# Altium schematic symbol library ICs.SchLib: 134 symbols (part 2 of 7)
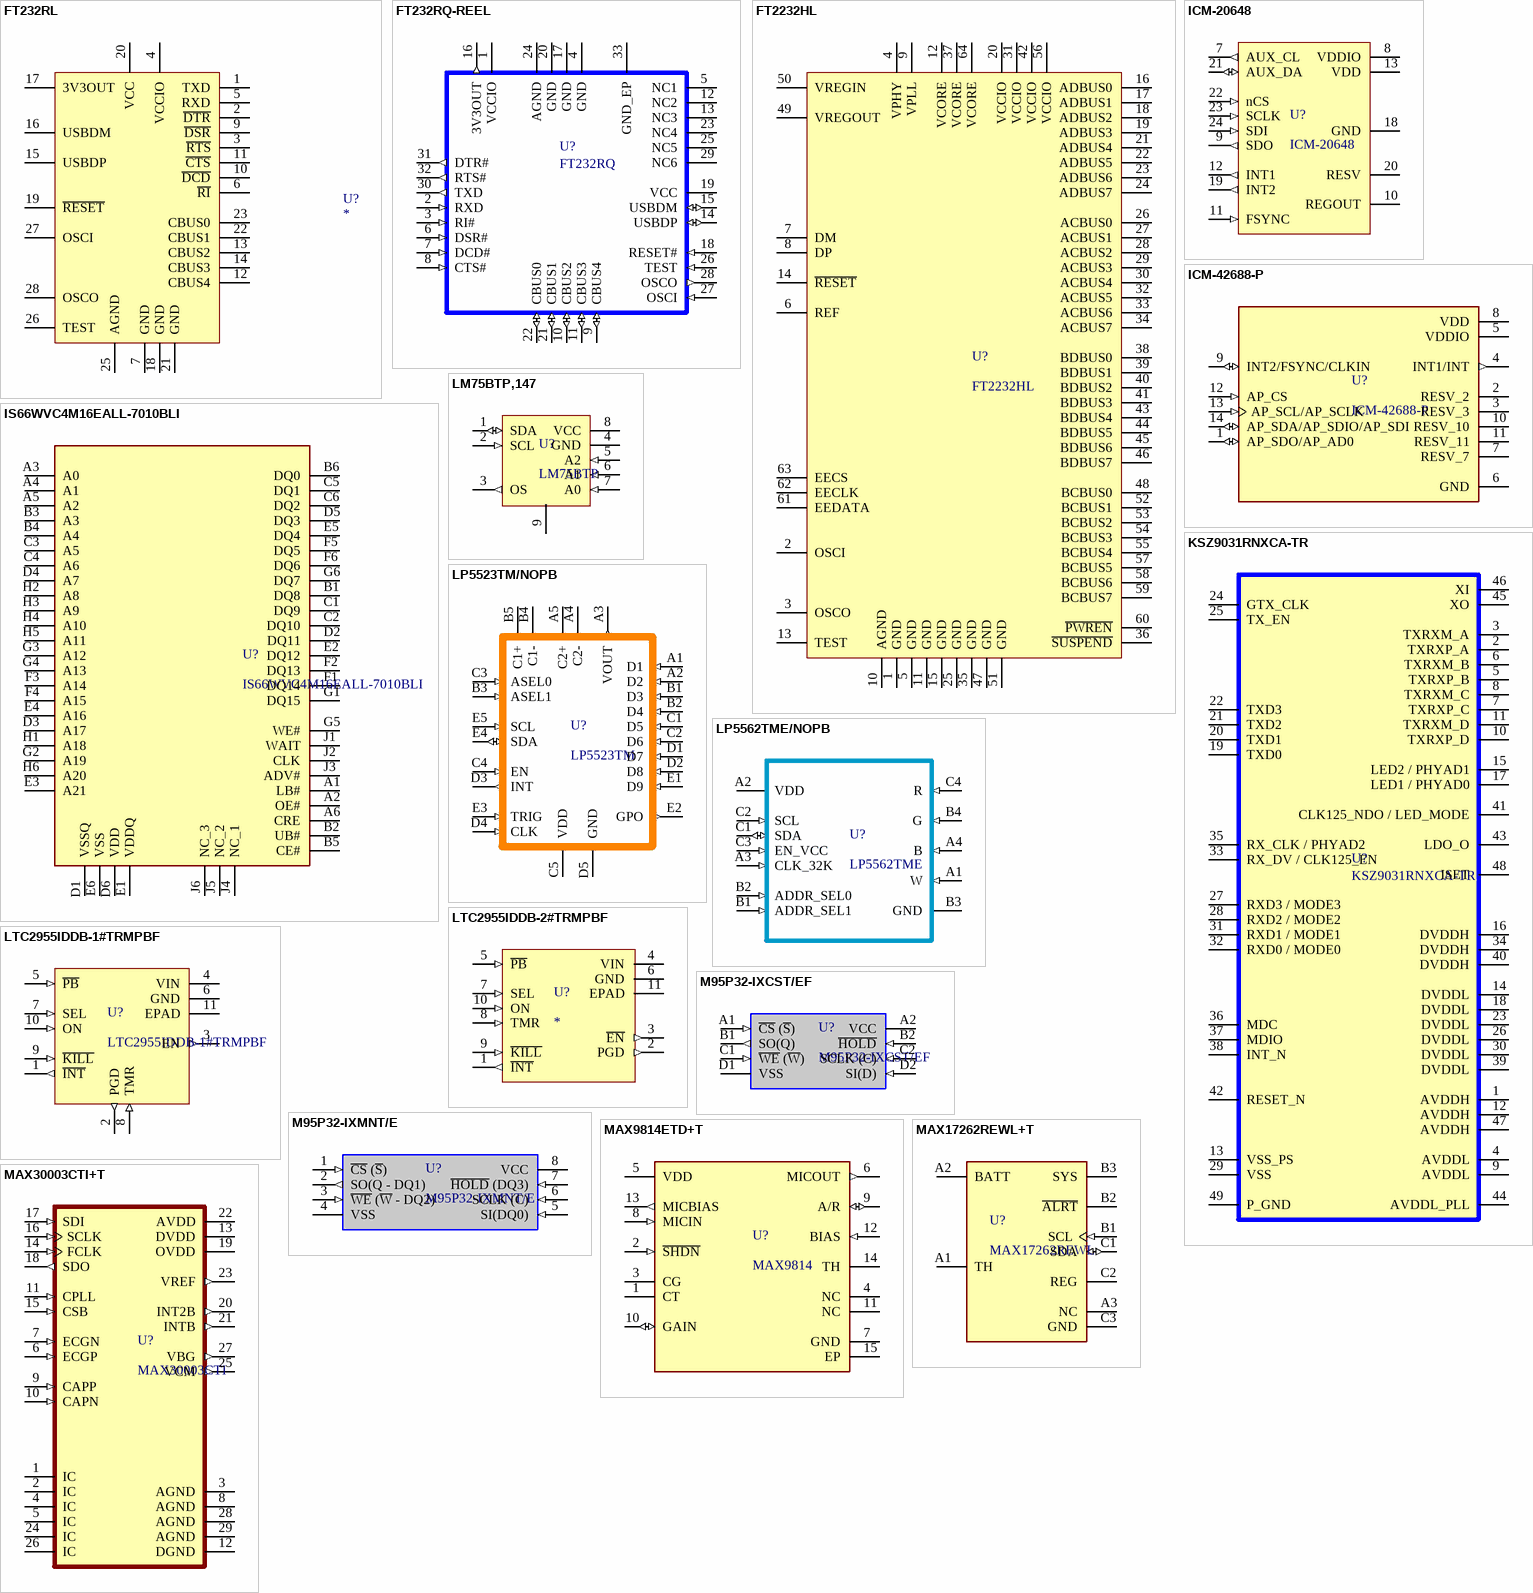
[diagram p27: symbols FT232RL to MAX30003CTI+T]

## FT232RQ-REEL
designator U?, comment FT232RQ
IC USB FS SERIAL UART 32-QFN; Manufacturer: FTDI, Future Technology Devices International Ltd; Manufacturer Part Number: FT232RQ-REEL; Function: Bridge, USB to UART; Standards: USB 2.0; Voltage - Supply: 3.3 V ~ 5.25 V; Current - Supply: 15mA; Supplier 1: Digi-Key; RoHS: RoHS Compliant; Category: Integrated Circuits (ICs); Stock 1: 69510; Pricing 1: 1=3.36, 10=3.027, 50=2.8772, 100=2.7276, 250=2.42872, 500=2.1298, 1000=1.98035 (GBP); Packaging: Digi-Reel®; Part Status: Active; Protocol: USB; Interface: UART; Operating Temperature: -40°C ~ 85°C; Package / Case: 32-VFQFN Exposed Pad; Supplier Device Package: 32-QFN Exposed Pad (5x5); ComponentLink1URL: http://www.ftdichip.com/Support/Documents/DataSheets/ICs/DS_FT232R.pdf; ComponentLink1Description: http://www.ftdichip.com/Support/Documents/DataSheets/ICs/DS_FT232R.pdf; Supplier Part Number 1: 768-1008-6-ND
footprint QFN50P500X500X100_HS-33N (QFN, 32-Leads, Body 5.00x5.00mm, Pitch 0.50mm, Thermal Pad 3.20x3.20mm, IPC Medium Density)
pins: 1 VCCIO (power), 2 RXD (in), 3 RI# (in), 4 GND (power), 5 NC1, 6 DSR# (in), 7 DCD# (in), 8 CTS# (in), 9 CBUS4 (io), 10 CBUS2 (io), 11 CBUS3 (io), 12 NC2, 13 NC3, 14 USBDP (io), 15 USBDM (io), 16 3V3OUT (out), 17 GND (power), 18 RESET# (in), 19 VCC (power), 20 GND (power), 21 CBUS1 (io), 22 CBUS0 (io), 23 NC4, 24 AGND (power), 25 NC5, 26 TEST (in), 27 OSCI (in), 28 OSCO (out), 29 NC6, 30 TXD (out), 31 DTR# (out), 32 RTS# (out), 33 GND_EP (power)

## FT2232HL
designator U?
FTDI Chip FT2232HL Dual UART Interface RS232, RS422, RS485 480Mbit/s, 64-Pin, LQFP; Manufacturer: FTDI; Manufacturer Part Number: FT2232HL; RoHS: Yes; Category: Interface ICs; Stock 1: 5049; Pricing 1: 10=3.93200, 20=3.83000, 50=3.72700, 100=3.63700 (USD); Mount: Surface Mount; Case/Package: LQFP; Number of Pins: 64; Min Operating Temperature: -40°C; Max Operating Temperature: 85°C; Length: 10mm; Width: 10mm; Height: 1.4mm; Lead Free: Lead Free; ComponentLink1URL: http://uk.rs-online.com/webdocs/1384/0900766b81384546.pdf?src-supplier=RSComponents; ComponentLink1Description: http://uk.rs-online.com/webdocs/1384/0900766b81384546.pdf?src-supplier=RSComponents; ComponentLink2URL: http://docs-europe.electrocomponents.com/webdocs/1384/0900766b81384546.pdf?src-supplier=Allied+Electronics; ComponentLink2Description: http://docs-europe.electrocomponents.com/webdocs/1384/0900766b81384546.pdf?src-supplier=Allied+Electronics; Supplier 1: Mouser; Supplier Part Number 1: 895-FT2232HL; Supplier 2: Digikey; Supplier Part Number 2: 768-1024-1-ND
footprint LQFP50P1200X1200X160-64N (LQFP, 64-Leads, Body 10.00x10.00mm, Pitch 0.50mm, IPC Medium Density)
pins: 1 GND, 2 OSCI, 3 OSCO, 4 VPHY, 5 GND, 6 REF, 7 DM, 8 DP, 9 VPLL, 10 AGND, 11 GND, 12 VCORE, 13 TEST, 14 ~{RESET}, 15 GND, 16 ADBUS0, 17 ADBUS1, 18 ADBUS2, 19 ADBUS3, 20 VCCIO, 21 ADBUS4, 22 ADBUS5, 23 ADBUS6, 24 ADBUS7, 25 GND, 26 ACBUS0, 27 ACBUS1, 28 ACBUS2, 29 ACBUS3, 30 ACBUS4, 31 VCCIO, 32 ACBUS5, 33 ACBUS6, 34 ACBUS7, 35 GND, 36 ~{SUSPEND}, 37 VCORE, 38 BDBUS0, 39 BDBUS1, 40 BDBUS2, 41 BDBUS3, 42 VCCIO, 43 BDBUS4, 44 BDBUS5, 45 BDBUS6, 46 BDBUS7, 47 GND, 48 BCBUS0, 49 VREGOUT, 50 VREGIN, 51 GND, 52 BCBUS1, 53 BCBUS2, 54 BCBUS3, 55 BCBUS4, 56 VCCIO, 57 BCBUS5, 58 BCBUS6, 59 BCBUS7, 60 ~{PWREN}, 61 EEDATA, 62 EECLK, 63 EECS, 64 VCORE

## ICM-20648
designator U?
IMU ACCEL/GYRO/TEMP I2C/SPI QFN; Manufacturer: TDK InvenSense; Sensor Type: Accelerometer, Gyroscope, Temperature, 6 Axis; Output Type: I²C, SPI; .CheckedFootprint: Yes; Supplier 1: Digi-Key; Manufacturer Part Number: ICM-20648; RoHS: RoHS Compliant; Category: Sensors, Transducers; Stock: 2335; Pricing: 1=7.67, 5=6.73, 10=6.056, 25=5.3836, 50=4.9796, 100=4.3067, 500=4.03756, 1000=3.76838 (USD); Part Status: Active; Operating Temperature: -40°C ~ 85°C (TA); ComponentLink1URL: https://www.invensense.com/wp-content/uploads/2015/12/ICM-20648-Product-Brief-v1.0.pdf; ComponentLink1Description: https://www.invensense.com/wp-content/uploads/2015/12/ICM-20648-Product-Brief-v1.0.pdf; Supplier Part Number 1: 1428-1061-6-ND; .CheckedSchematic: Yes
footprint QFN40P300X300X95_HS-25N (QFN, 24-Leads, Body 3.00x3.00mm, Pitch 0.40mm, Thermal Pad 1.50x1.50mm, IPC Medium Density)
pins: 1 NC  hidden, 2 NC  hidden, 3 NC  hidden, 4 NC  hidden, 5 NC  hidden, 6 NC  hidden, 7 AUX_CL (out), 8 VDDIO (power), 9 SDO (out), 10 REGOUT (power), 11 FSYNC (in), 12 INT1 (out), 13 VDD (power), 14 NC  hidden, 15 NC  hidden, 16 NC  hidden, 17 NC  hidden, 18 GND (power), 19 INT2 (out), 20 RESV, 21 AUX_DA (io), 22 nCS (in), 23 SCLK (in), 24 SDI (in)

## ICM-42688-P
designator U?
Accelerometer and Gyroscope 6-Axis MEMS Motion Tracking Device Digital-OUT 14-Pin LGA T/R; Manufacturer: TDK InvenSense; Supplier: Arrow Electronics; Supplier Part Number: ICM-42688-P; Manufacturer Part Number: ICM-42688-P; RoHS: No; Category: Inertial Measurement Units (IMUs); Stock: 2325; Pricing: 1=6,624, 10=5,42, 25=5,047, 50=4,908, 100=4,25, 250=4,196, 500=3,924, 1000=3,641 (USD); ComponentLink1URL: https://media.digikey.com/pdf/Data%20Sheets/TDK%20PDFs/ICM-42688-P_DS_Rev1.2.pdf?src-supplier=Digi-Key; ComponentLink1Description: https://media.digikey.com/pdf/Data%20Sheets/TDK%20PDFs/ICM-42688-P_DS_Rev1.2.pdf?src-supplier=Digi-Key; Supplier 1: Farnell; Supplier Part Number 1: 3491010; Supplier 2: Digikey; Supplier Part Number 2: 1428-ICM-42688-PCT-ND; Supplier 3: Digikey; Supplier Part Number 3: 1428-ICM-42688-PDKR-ND
footprint QFN50P300X255X97_HS-15N (QFN, 14-Leads, Body 3,00x2,55mm, Pitch 0,50mm, Thermal Pad 0,00x0,00mm, IPC Medium Density)
pins: 1 AP_SDO/AP_AD0 (io), 2 RESV_2, 3 RESV_3, 4 INT1/INT (out), 5 VDDIO (power), 6 GND (power), 7 RESV_7, 8 VDD (power), 9 INT2/FSYNC/CLKIN (io), 10 RESV_10, 11 RESV_11, 12 AP_CS (in), 13 AP_SCL/AP_SCLK (in), 14 AP_SDA/AP_SDIO/AP_SDI (io)

## IS66WVC4M16EALL-7010BLI
designator U?
Cellular RAM Pseudo SRAM, 4Mx16, 1.7 to 1.95V, 70ns, VFBGA-54; Manufacturer: ISSI; Memory Format: Volatile,PSRAM; Memory Size: 64Mb; Supplier: Mouser; Supplier Part Number: 870-66WV4M16EA70BLI; Manufacturer Part Number: IS66WVC4M16EALL-7010BLI; RoHS: Yes; Category: Memory; Stock: 4260; Pricing: 1=6, 10=5,69, 50=5,69, 100=5,69, 1000=4,73, 10000=4,73 (USD); Mounting Technology: Surface Mount; Case/Package: VFBGA; Min Operating Temperature: -40°C; Max Operating Temperature: 85°C; Packaging: Tray; Access Time: 70ns; Series: -; RoHS Compliant: Yes; ComponentLink1URL: http://www.mouser.com/ds/2/198/66-67WVC4M16EALL-845141.pdf?src-supplier=Mouser; ComponentLink1Description: http://www.mouser.com/ds/2/198/66-67WVC4M16EALL-845141.pdf?src-supplier=Mouser; ComponentLink2URL: http://www.issi.com/WW/pdf/66-67WVC4M16EALL.pdf?src-supplier=Digi-Key; ComponentLink2Description: http://www.issi.com/WW/pdf/66-67WVC4M16EALL.pdf?src-supplier=Digi-Key; Supplier 1: Arrow Electronics; Supplier Part Number 1: IS66WVC4M16EALL-7010BLI; Supplier 2: Digi-Key; Supplier Part Number 2: IS66WVC4M16EALL-7010BLI-TR-ND
footprint BGA54C75P6X9_600X800X100 (BGA, 54-Leads, Body 6,00x8,00mmx1,00mm, Pitch 0,75mm)
pins: A1 LB#, A2 OE#, A3 A0, A4 A1, A5 A2, A6 CRE, B1 DQ8, B2 UB#, B3 A3, B4 A4, B5 CE#, B6 DQ0, C1 DQ9, C2 DQ10, C3 A5, C4 A6, C5 DQ1, C6 DQ2, D1 VSSQ, D2 DQ11, D3 A17, D4 A7, D5 DQ3, D6 VDD, E1 VDDQ, E2 DQ12, E3 A21, E4 A16, E5 DQ4, E6 VSS, F1 DQ14, F2 DQ13, F3 A14, F4 A15, F5 DQ5, F6 DQ6, G1 DQ15, G2 A19, G3 A12, G4 A13, G5 WE#, G6 DQ7, H1 A18, H2 A8, H3 A9, H4 A10, H5 A11, H6 A20, J1 WAIT, J2 CLK, J3 ADV#, J4 NC_1, J5 NC_2, J6 NC_3

## KSZ9031RNXCA-TR
designator U?
IC TXRX ETHERNET 48QFN; Manufacturer: Microchip Technology; Number of Drivers/Receivers: 4/4; Duplex: Full; Voltage - Supply: 1.8V, 2.5V, 3.3V; Supplier 1: Digi-Key; Manufacturer Part Number: KSZ9031RNXCA-TR; RoHS: RoHS Compliant; Category: Integrated Circuits (ICs); Stock 1: 5007; Pricing 1: 1=4.48, 10=4.01, 25=3.606, 100=3.2798, 250=2.96888, 500=2.658 (GBP); Packaging: Digi-Reel®; Part Status: Active; Type: Transceiver; Protocol: Ethernet; Receiver Hysteresis: -; Data Rate: -; Operating Temperature: 0°C ~ 70°C; Mounting Type: Surface Mount; Package / Case: 48-VFQFN Exposed Pad; Supplier Device Package: 48-QFN (7x7); ComponentLink1URL: http://www.microchip.com/mymicrochip/filehandler.aspx?ddocname=en585516; ComponentLink1Description: http://www.microchip.com/mymicrochip/filehandler.aspx?ddocname=en585516; Supplier Part Number 1: 576-4041-6-ND
footprint QFN50P700X700X90_HS-49N (QFN, 48-Leads, Body 7.00x7.00mm, Pitch 0.50mm, Thermal Pad 3.50x3.50mm, IPC Medium Density)
ibis ksz9031rnx_1v8 (Model Description)
pins: 1 AVDDH, 2 TXRXP_A, 3 TXRXM_A, 4 AVDDL, 5 TXRXP_B, 6 TXRXM_B, 7 TXRXP_C, 8 TXRXM_C, 9 AVDDL, 10 TXRXP_D, 11 TXRXM_D, 12 AVDDH, 13 VSS_PS, 14 DVDDL, 15 LED2 / PHYAD1, 16 DVDDH, 17 LED1 / PHYAD0, 18 DVDDL, 19 TXD0, 20 TXD1, 21 TXD2, 22 TXD3, 23 DVDDL, 24 GTX_CLK, 25 TX_EN, 26 DVDDL, 27 RXD3 / MODE3, 28 RXD2 / MODE2, 29 VSS, 30 DVDDL, 31 RXD1 / MODE1, 32 RXD0 / MODE0, 33 RX_DV / CLK125_EN, 34 DVDDH, 35 RX_CLK / PHYAD2, 36 MDC, 37 MDIO, 38 INT_N, 39 DVDDL, 40 DVDDH, 41 CLK125_NDO / LED_MODE, 42 RESET_N, 43 LDO_O, 44 AVDDL_PLL, 45 XO, 46 XI, 47 AVDDH, 48 ISET, 49 P_GND

## LM75BTP,147
designator U?, comment LM75BTP
SENSOR TEMPERATURE I2C 8HWSON; Manufacturer: NXP USA Inc.; Manufacturer Part Number: LM75BTP,147; Sensor Type: Digital, Local; Sensing Temperature - Local: -55°C ~ 125°C; Output Type: I²C; Voltage - Supply: 2.8 V ~ 5.5 V; Resolution: 11 b; Accuracy - Highest (Lowest): ±2°C (±3°C); Test Condition: -25°C ~ 100°C (-55°C ~ 125°C); Supplier 1: Digi-Key; RoHS: RoHS Compliant; Category: Sensors, Transducers; Stock: 36618; Pricing: 1=0.74, 5=0.708, 10=0.617, 25=0.5416, 50=0.45, 100=0.3833, 500=0.3333, 1000=0.29164 (USD); Packaging: Digi-Reel®; Part Status: Active; Sensing Temperature - Remote: -; Features: Output Switch, Programmable Limit, Shutdown Mode; Operating Temperature: -55°C ~ 125°C; Mounting Type: Surface Mount; Package / Case: 8-WFDFN Exposed Pad; Supplier Device Package: 8-HWSON (2x3); ComponentLink1URL: http://www.nxp.com/documents/data_sheet/LM75B.pdf; ComponentLink1Description: http://www.nxp.com/documents/data_sheet/LM75B.pdf; Supplier Part Number 1: 568-9815-6-ND
footprint PSON50P300X80_HS-9N (PSON, 8-Leads, Body 2.00x3.00mm, Pitch 0.50mm, Thermal Pad 1.50x0.66mm, IPC Medium Density)
pins: 1 SDA (io), 2 SCL (in), 3 OS (out), 4 GND (power), 5 A2 (in), 6 A1 (in), 7 A0 (in), 8 VCC (power), 9 (power)

## LP5523TM/NOPB
designator U?, comment LP5523TM
IC LED DRIVER RGLTR DIM 25USMD; Manufacturer: Texas Instruments; Manufacturer Part Number: LP5523TM/NOPB; Topology: Switched Capacitor (Charge Pump); Internal Switch(s): Yes; Number of Outputs: 9; Voltage - Supply (Min): 2.7V; Voltage - Supply (Max): 5.5V; Current - Output / Channel: 25.5mA; Dimming: PWM; Supplier 1: Digi-Key; Supplier Part Number 1: 296-39616-6-ND; RoHS: RoHS Compliant; Category: Integrated Circuits (ICs); Stock 1: 1590; Pricing 1: 1=2.11, 10=1.899, 100=1.524 (EUR); Packaging: Digi-Reel®; Part Status: Active; Type: DC DC Regulator; Voltage - Output: -; Frequency: -; Applications: Backlight; Operating Temperature: -30°C ~ 85°C (TA); Mounting Type: Surface Mount; Package / Case: 25-WFBGA; Supplier Device Package: 25-uSMD; ComponentLink1URL: http://www.ti.com/lit/ds/symlink/lp5523.pdf; ComponentLink1Description: http://www.ti.com/lit/ds/symlink/lp5523.pdf
footprint BGA25C40P5X5_226X226X68 (BGA, 25-Leads, Body 2.26x2.26mmx0.68mm, Pitch 0.40mm)
pins: A1 D1 (in), A2 D2 (in), A3 VOUT (out), A4 C2-, A5 C2+, B1 D3 (in), B2 D4 (in), B3 ASEL1 (in), B4 C1-, B5 C1+, C1 D5 (in), C2 D6 (in), C3 ASEL0 (in), C4 EN (in), C5 VDD (power), D1 D7 (in), D2 D8 (in), D3 INT (out), D4 CLK (in), D5 GND (power), E1 D9 (in), E2 GPO (out), E3 TRIG (in), E4 SDA (io), E5 SCL (in)

## LP5562TME/NOPB
designator U?, comment LP5562TME
IC LED DRIVER LINEAR DIM 25.5MA; Manufacturer: Texas Instruments; Manufacturer Part Number: LP5562TME/NOPB; Internal Switch(s): Yes; Number of Outputs: 4; Voltage - Supply (Min): 2.7V; Voltage - Supply (Max): 5.5V; Frequency: 256kHz, 558kHz; Dimming: I²C; Supplier 1: Digi-Key; RoHS: RoHS Compliant; Category: Integrated Circuits (ICs); Stock 1: 4154; Pricing 1: 1=1.34, 10=1.195, 100=0.9314 (USD); Packaging: Digi-Reel®; Part Status: Active; Type: Linear; Topology: -; Voltage - Output: -; Current - Output / Channel: 25.5mA; Applications: Backlight; Operating Temperature: -40°C ~ 85°C (TA); Mounting Type: Surface Mount; Package / Case: 12-WFBGA, DSBGA; Supplier Device Package: 12-DSBGA; ComponentLink1URL: http://www.ti.com/lit/ds/symlink/lp5562.pdf; ComponentLink1Description: http://www.ti.com/lit/ds/symlink/lp5562.pdf; Supplier Part Number 1: 296-39060-6-ND
footprint BGA12C40P4X3_162X122X68 (BGA, 12-Leads, Body 1.62x1.22mmx0.68mm, Pitch 0.40mm)
pins: A1 W (in), A2 VDD (power), A3 CLK_32K (in), A4 B (in), B1 ADDR_SEL1 (in), B2 ADDR_SEL0 (in), B3 GND (power), B4 G (in), C1 SDA (io), C2 SCL (in), C3 EN_VCC (in), C4 R (in)

## LTC2955IDDB-1#TRMPBF
designator U?
IC CTLR ON/OFF PUSHBUTTON 10-DFN; Manufacturer 1: Linear Technology; Category 1: Integrated Circuits (ICs); Voltage - Input: ±36V; Voltage - Supply: 1.5 V ~ 36 V; Current - Supply: 1.2µA; Parameter Name 1: Surface Mount; Supplier 1: Digi-Key; Supplier Part Number 1: LTC2955IDDB-1#TRMPBFCT-ND; Manufacturer Part Number 1: LTC2955IDDB-1#TRMPBF; RoHS 1: RoHS Compliant; Description 1: IC CTLR ON/OFF PUSHBUTTON 10-DFN; Stock 1: 935; Pricing 1: 1=5.8, 25=5.1756, 100=4.6582 (USD); Packaging: Cut Tape (CT); Applications: Push Button, On/Off Controller; Package / Case: 10-WFDFN Exposed Pad; Supplier Device Package: 10-DFN (3x2); ComponentLink1URL: http://www.linear.com/docs/41161; ComponentLink1Description: http://www.linear.com/docs/41161
footprint SON50P200X80_HS-11N (SON, 10-Leads, Body 3.00x2.00mm, Pitch 0.50mm, Thermal Pad 2.39x0.44mm, IPC Medium Density)
pins: 1 ~{INT} (out), 2 PGD (out), 3 EN (out), 4 VIN (power), 5 ~{PB} (in), 6 GND (power), 7 SEL (in), 8 TMR (in), 9 ~{KILL} (in), 10 ON (in), 11 EPAD (power)

## LTC2955IDDB-2#TRMPBF
designator U?
IC CTLR ON/OFF PUSHBUTTON 10-DFN; Manufacturer: Linear Technology; Manufacturer Part Number: LTC2955IDDB-2#TRMPBF; Voltage - Input: ±36V; Voltage - Supply: 1.5 V ~ 36 V; Current - Supply: 1.2µA; Supplier 1: Digi-Key; Supplier Part Number 1: LTC2955IDDB-2#TRMPBFDKR-ND; RoHS: RoHS Compliant; Category: Integrated Circuits (ICs); Stock 1: 289; Pricing 1: 1=4.86, 25=4.3372, 100=3.9036 (EUR); Packaging: Digi-Reel®; Applications: Push Button, On/Off Controller; Operating Temperature: -40°C ~ 85°C; Mounting Type: Surface Mount; Package / Case: 10-WFDFN Exposed Pad; Supplier Device Package: 10-DFN (3x2); ComponentLink1URL: http://www.linear.com/docs/41161; ComponentLink1Description: http://www.linear.com/docs/41161
footprint SON50P200X80_HS-11N (SON, 10-Leads, Body 3.00x2.00mm, Pitch 0.50mm, Thermal Pad 2.39x0.44mm, IPC Medium Density)
pins: 1 ~{INT} (out), 2 PGD (out), 3 ~{EN} (out), 4 VIN (power), 5 ~{PB} (in), 6 GND (power), 7 SEL (in), 8 TMR (in), 9 ~{KILL} (in), 10 ON (in), 11 EPAD (power)

## M95P32-IXCST/EF
designator U?
M95P32-I Series 32 Mb (4 M x 8) 80 MHz SPI EEPROM Memory IC - WLCSP-8; Manufacturer: STMicroelectronics; Supplier: Digikey; Supplier Part Number: 497-M95P32-IXCST/EFDKR-ND; Manufacturer Part Number: M95P32-IXCST/EF; RoHS: No; Category: Memory; Stock: 9222; Pricing: 1=2.68, 10=2.409, 25=2.2724, 100=1.9362, 250=1.818, 500=1.59076, 1000=1.31805, 2500=1.22715 (USD); Supplier 1: Mouser; Supplier Part Number 1: 511-M95P32-IXCST/EF; Supplier 2: Digikey; Supplier Part Number 2: 497-M95P32-IXCST/EFCT-ND
footprint BGA8C70P2X4_153X261X58 (BGA, 8-Leads, Body 1.53x2.61mmx0.58mm, Pitch 0.70mm)
pins: A1 ~{CS} (~{S}) (in), A2 VCC (power), B1 SO(Q) (out), B2 ~{HOLD} (in), C1 ~{WE} (~{W}) (in), C2 SCLK (C) (in), D1 VSS (power), D2 SI(D) (in)

## M95P32-IXMNT/E
designator U?
Eeprom, 32Mbit, -40 To 85Deg C Rohs Compliant: Yes |Stmicroelectronics M95P32-IXMNT/E; Interface: Parallel; Clock Frequency: 80MHz; Max Supply Current: 5mA; Max Supply Voltage: 3.6V; Min Supply Voltage: 1.6V; Number of Circuits: 1; Operating Supply Voltage: 1.8V; Supplier: Farnell; Supplier Part Number: M95P32-IXMNT/E; Manufacturer: STMicroelectronics; Manufacturer Part Number: M95P32-IXMNT/E; RoHS: Compliant; Category: EEPROM; Stock: 1; Pricing: 1=1.53, 10=1.21, 50=1.09, 100=0.968, 250=0.911, 500=0.876, 2500=0.816 (EUR); Case/Package: SOP; China RoHS: Compliant; Country of Origin: Mainland China; Export Control Classification Number (ECCN) Code: 3A991.B.1.B.1; Height - Seated (Max): 1.75mm; Harmonized Tariff Schedule (HTS) Code: 8542.32.00.51; Introduction Date: 2022-06-15; Length: 4.9mm; Lifecycle Status: Production; Max Operating Temperature: 85°C; Memory Format: EEPROM; Min Operating Temperature: -40°C; Number of Terminals: 8; REACH SVHC: Yes; Terminal Pitch: 1.27mm; Width: 3.9mm; Supplier 1: Farnell; Supplier Part Number 1: M95P32-IXMNT/E
footprint SO8N_4X5X1P27_STM-M
pins: 1 ~{CS} (~{S}) (in), 2 SO(Q - DQ1) (out), 3 ~{WE} (~{W} - DQ2) (in), 4 VSS (power), 5 SI(DQ0) (in), 6 SCLK (C) (in), 7 ~{HOLD} (DQ3) (in), 8 VCC (power)

## MAX9814ETD+T
designator U?, comment MAX9814
GLOVE, POLYAMIDE, L/FREE, PU, SIZE 6 - More Details; Manufacturer: Maxim; Manufacturer Part Number: MAX9814ETD+T; Power Supply Rejection Ratio (PSRR): 80dB; Voltage Gain: 60dB; Min Supply Voltage: 2.7V; Max Supply Voltage: 5.5V; Max Power Dissipation: 1.481W; Max Output Current: 100mA; Operating Supply Current: 3.1mA; Number of Channels: 1; Load Impedance: 50R; Supplier 1: Digi-Key; Supplier Part Number 1: MAX9814ETD+TCT-ND; RoHS: Yes; Category: Amplifiers - Audio; Stock 1: 25391; Pricing 1: 1=1.65000, 10=1.48500, 25=1.40120, 100=1.12100, 250=0.98088, 500=0.95286, 1000=0.76700 (USD); Mount: Surface Mount; Number of Pins: 14; Contact Plating: Tin,Matte; Weight: 0.001764oz; Min Operating Temperature: -40°C; Max Operating Temperature: 85°C; Packaging: Tape and Reel; Termination: SMD/SMT; Package Quantity: 1; Max Input Voltage: 5.5V; Length: 3.1mm; Width: 3.1mm; Height: 0.75mm; Radiation Hardening: No; Lead Free: Lead Free; REACH SVHC: No SVHC; ComponentLink1URL: https://datasheet.ciiva.com/23831/383793-23831860.pdf?src-supplier=Newark; ComponentLink1Description: https://datasheet.ciiva.com/23831/383793-23831860.pdf?src-supplier=Newark; ComponentLink2URL: https://datasheet.ciiva.com/4770/max9814-110277-4770217.pdf?src-supplier=Mouser; ComponentLink2Description: https://datasheet.ciiva.com/4770/max9814-110277-4770217.pdf?src-supplier=Mouser; ComponentLink3URL: https://datasheet.ciiva.com/26841/max9814etd-t-26841935.pdf?src-supplier=IIIC; ComponentLink3Description: https://datasheet.ciiva.com/26841/max9814etd-t-26841935.pdf?src-supplier=IIIC; ComponentLink4URL: https://datasheet.ciiva.com/2968/max9814-2968002.pdf?src-supplier=Avnet; ComponentLink4Description: https://datasheet.ciiva.com/2968/max9814-2968002.pdf?src-supplier=Avnet; ComponentLink5URL: https://datasheet.ciiva.com/2967/max9814-2967828.pdf?src-supplier=Avnet; ComponentLink5Description: https://datasheet.ciiva.com/2967/max9814-2967828.pdf?src-supplier=Avnet; ComponentLink6URL: https://datasheet.ciiva.com/1481/383793-1481429.pdf?src-supplier=Element14; ComponentLink6Description: https://datasheet.ciiva.com/1481/383793-1481429.pdf?src-supplier=Element14; ComponentLink7URL: https://datasheet.ciiva.com/1789/max9814-1789816.pdf?src-supplier=Digi-Key; ComponentLink7Description: https://datasheet.ciiva.com/1789/max9814-1789816.pdf?src-supplier=Digi-Key; ComponentLink8URL: https://datasheet.ciiva.com/22695/383793-22695546.pdf?src-supplier=Element14; ComponentLink8Description: https://datasheet.ciiva.com/22695/383793-22695546.pdf?src-supplier=Element14; ComponentLink9URL: https://datasheet.ciiva.com/1789/max9814-1789814.pdf?src-supplier=Digi-Key; ComponentLink9Description: https://datasheet.ciiva.com/1789/max9814-1789814.pdf?src-supplier=Digi-Key; ComponentLink10URL: https://datasheet.ciiva.com/1789/max9814-1789815.pdf?src-supplier=Digi-Key; ComponentLink10Description: https://datasheet.ciiva.com/1789/max9814-1789815.pdf?src-supplier=Digi-Key
footprint FP-T1433-2-IPC_B
pins: 1 CT, 2 ~{SHDN} (in), 3 CG, 4 NC, 5 VDD (power), 6 MICOUT (out), 7 GND (power), 8 MICIN (in), 9 A/R (io), 10 GAIN (io), 11 NC, 12 BIAS (in), 13 MICBIAS (out), 14 TH, 15 EP (power)

## MAX17262REWL+T
designator U?, comment MAX17262REWL
Fuel Gauge with ModelGauge 1-Cell Li-Ion Serial (2-Wire I2C) 2.3V to 4.9V 9-Bump WLP T/R; Manufacturer: Maxim; Manufacturer Part Number: MAX17262REWL+T; Supplier 1: Digi-Key; Supplier Part Number 1: 175-MAX17262REWL+TCT-ND; RoHS: No; Category: Battery Management; Stock 1: 11851; Pricing 1: 1=2.08000, 10=1.86600, 25=1.76000, 100=1.40800, 250=1.23200, 500=1.19680, 1000=1.14400 (USD); ComponentLink1URL: http://www.farnell.com/datasheets/2842802.pdf?src-supplier=Farnell; ComponentLink1Description: http://www.farnell.com/datasheets/2842802.pdf?src-supplier=Farnell
footprint FP-W91G1-3-IPC_B
pins: A1 TH, A2 BATT (power), A3 NC, B1 SCL (in), B2 ~{ALRT} (oc), B3 SYS (power), C1 SDA (io), C2 REG (power), C3 GND (power)

## MAX30003CTI+T
designator U?, comment MAX30003CTI
Ultra-Low Power, Single-Channel Integrated Biopotential (ECG, R to R Detection) AFE; Manufacturer: Analog Devices; Manufacturer Part Number: MAX30003CTI+T; Manufacturer Lifecycle Status: PRODUCTION; Supplier: DigiKey; Supplier Part Number: MAX30003CTI+TCT-ND; RoHS: Compliant; Category: Analog to Digital Converters (ADCs); Stock: 4679; Pricing: 1=15.25, 10=12.051, 25=11.2528, 100=10.3887 (USD); Lifecycle Status: Production; Pins: 28; Schedule B: 8542390000|8542390000|8542390000|8542390000|8542390000|8542390000|8542390000|8542390000|8542390000|8542390000|8542390000|8542390000|8542390000|8542390000|8542390000|8542390000|8542390000|8542390000|8542390000|8542390000|8542390000|8542390000|8542390000|85; ComponentLink1URL: https://octopart.com:443/opatz8j6/c1?t=EFh5IPspYUydVgN-hhyeCFpk6PFI3vStv1uWwcPjHpUMCOnCk-QcRJHTSHKPb9pdI5IiOpwDQ06qRRzk6ZBx6rOIYhR7wv5oya1yAtGku_heb0EebKDdIKCF_c37_XNoQYmfxQxhR0RSalsQkIoD80YfUD1tr9pIY7s5EIYldp8S3YIFsChD_Fv6TaQzwutt6k5xhnicZvaCb3OE1iAwy0pZq6Iv8CDdbWVFL4d1eJy9r_ktlyVf1QxLmDya8qcPvRNhiPY8XiTZHRx4dfw2FXrJcLjpyI-qXqrTkqZx-2iOuDkGw4U1JoGCmg&src-supplier=Analog+Devices; ComponentLink1Description: https://octopart.com:443/opatz8j6/c1?t=EFh5IPspYUydVgN-hhyeCFpk6PFI3vStv1uWwcPjHpUMCOnCk-QcRJHTSHKPb9pdI5IiOpwDQ06qRRzk6ZBx6rOIYhR7wv5oya1yAtGku_heb0EebKDdIKCF_c37_XNoQYmfxQxhR0RSalsQkIoD80YfUD1tr9pIY7s5EIYldp8S3YIFsChD_Fv6TaQzwutt6k5xhnicZvaCb3OE1iAwy0pZq6Iv8CDdbWVFL4d1eJy9r_ktlyVf1QxLmDya8qcPvRNhiPY8XiTZHRx4dfw2FXrJcLjpyI-qXqrTkqZx-2iOuDkGw4U1JoGCmg&src-supplier=Analog+Devices; ComponentLink2URL: https://datasheet.octopart.com:443/MAX30003CTI%2BT-Analog-Devices-datasheet-140085705.pdf?src-supplier=Ciiva; ComponentLink2Description: https://datasheet.octopart.com:443/MAX30003CTI%2BT-Analog-Devices-datasheet-140085705.pdf?src-supplier=Ciiva; ComponentLink3URL: https://datasheet.octopart.com:443/MAX30003CTI%2BT-Maxim-Integrated-datasheet-158444675.pdf?src-supplier=Augswan; ComponentLink3Description: https://datasheet.octopart.com:443/MAX30003CTI%2BT-Maxim-Integrated-datasheet-158444675.pdf?src-supplier=Augswan; ComponentLink4URL: https://sigma.octopart.com:443/138893449/technical_drawing/Maxim-Integrated-MAX30003CTI%2BT.pdf?src-supplier=ShanghaiCT; ComponentLink4Description: https://sigma.octopart.com:443/138893449/technical_drawing/Maxim-Integrated-MAX30003CTI%2BT.pdf?src-supplier=ShanghaiCT; ComponentLink5URL: http://sigma.octopart.com:80/conflict_mineral_statement/Analog-Devices-company-33.pdf?src-supplier=Compliance+Statements; ComponentLink5Description: http://sigma.octopart.com:80/conflict_mineral_statement/Analog-Devices-company-33.pdf?src-supplier=Compliance+Statements; ComponentLink6URL: http://sigma.octopart.com:80/reach_statement/Maxim-Integrated-company-67.pdf?src-supplier=Compliance+Statements; ComponentLink6Description: http://sigma.octopart.com:80/reach_statement/Maxim-Integrated-company-67.pdf?src-supplier=Compliance+Statements; ComponentLink7URL: http://sigma.octopart.com:80/rohs_statement/Maxim-Integrated-company-66.pdf?src-supplier=Compliance+Statements; ComponentLink7Description: http://sigma.octopart.com:80/rohs_statement/Maxim-Integrated-company-66.pdf?src-supplier=Compliance+Statements; ComponentLink8URL: http://sigma.octopart.com:80/conflict_mineral_statement/Maxim-Integrated-company-65.pdf?src-supplier=Compliance+Statements; ComponentLink8Description: http://sigma.octopart.com:80/conflict_mineral_statement/Maxim-Integrated-company-65.pdf?src-supplier=Compliance+Statements; ComponentLink9URL: https://octopart.com:443/opatz8j6/c1?t=1xx_R_ryCkgtQlOHzQl7Hf7zir08Zn-nxjxpoCSc39Ubop-kn4L5RRtSgemGvSlqhDSbFe_rmSpU0_Ng2J-rbpL77BBq229f4NVQ0YE-cyqAX0WML_rdO3o31m20t3AhnjN1jrerMGum1iwtW1O3y_WUSxXLvx3xyWoMV-kdRMC-BWO8gFM7kyvPqlezmUr3pIfSF9KQfx7Jz6petYCynn1fxncKmY05mQxaOPdLh86lw04F1PUQtecZJev_SUxdzsd7sjHI3SUaDNL_92oTiUMQH_RhcaVM_fx4iFJOs0asRqB9ZgXnOXOfxw&src-supplier=Compliance+Statements; ComponentLink9Description: https://octopart.com:443/opatz8j6/c1?t=1xx_R_ryCkgtQlOHzQl7Hf7zir08Zn-nxjxpoCSc39Ubop-kn4L5RRtSgemGvSlqhDSbFe_rmSpU0_Ng2J-rbpL77BBq229f4NVQ0YE-cyqAX0WML_rdO3o31m20t3AhnjN1jrerMGum1iwtW1O3y_WUSxXLvx3xyWoMV-kdRMC-BWO8gFM7kyvPqlezmUr3pIfSF9KQfx7Jz6petYCynn1fxncKmY05mQxaOPdLh86lw04F1PUQtecZJev_SUxdzsd7sjHI3SUaDNL_92oTiUMQH_RhcaVM_fx4iFJOs0asRqB9ZgXnOXOfxw&src-supplier=Compliance+Statements; Supplier 1: DigiKey; Supplier Part Number 1: MAX30003CTI+TCT-ND
footprint QFN50P500X500X80-29N
pins: 1 IC, 2 IC, 3 AGND (power), 4 IC, 5 IC, 6 ECGP (in), 7 ECGN (in), 8 AGND (power), 9 CAPP (in), 10 CAPN (in), 11 CPLL (in), 12 DGND (power), 13 DVDD (power), 14 FCLK (in), 15 CSB (in), 16 SCLK (in), 17 SDI (in), 18 SDO (out), 19 OVDD (power), 20 INT2B (out), 21 INTB (out), 22 AVDD (power), 23 VREF (out), 24 IC, 25 VCM (out), 26 IC, 27 VBG (out), 28 AGND (power), 29 AGND (power)

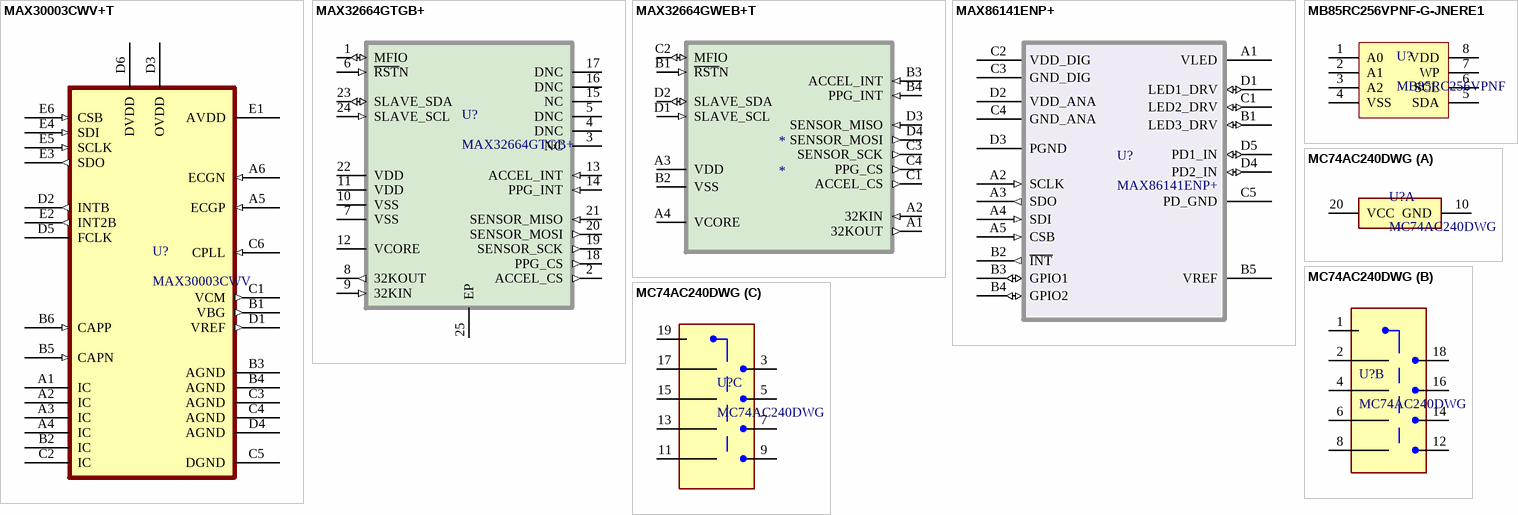
[diagram p3: symbols MAX30003CWV+T to MC74AC240DWG]

## MAX30003CWV+T
designator U?, comment MAX30003CWV
Ultra-Low Power, Single-Channel Integrated Biopotential (ECG, R to R Detection) AFE; Manufacturer: Analog Devices; Manufacturer Part Number: MAX30003CWV+T; Manufacturer Lifecycle Status: PRODUCTION; Supplier: DigiKey; Supplier Part Number: 175-MAX30003CWV+TCT-ND; RoHS: Compliant; Category: Analog to Digital Converters (ADCs); Stock: 2807; Pricing: 1=15.25, 10=12.051, 25=11.2528, 100=10.3887 (USD); Lifecycle Status: Production; Pins: 30; ComponentLink1URL: https://octopart.com:443/opatz8j6/c1?t=Y-mRmFHLbW9CcUMd2V5gVrKTmIivecdMgfAfr7nG9mOI74XtAwi8aDasZ86uhyh_BwnY5XZ-4bhBwMogv8Wj5vuzdLfKs4mtotyaFwj1xwmzxbPdDSr9N5EIB0MDGFR9fyGC1wYiKaGBMO_EMdR1j0Eh5zLrKOZAXBy7qeImzyqYOH-Nji6pnHJ6g6P_gaCymry2GV4Jh7JX8vEOd7nA5fIQYmfWy8B-t_fF73Kxoh-lVHNe9T7OGQv94VGaVQkGXZD5r20IhWgVPNawiFj0oeppTmPev4Di_nsPwTpmggtGhTfGM0Ssle3QDw&src-supplier=Analog+Devices; ComponentLink1Description: https://octopart.com:443/opatz8j6/c1?t=Y-mRmFHLbW9CcUMd2V5gVrKTmIivecdMgfAfr7nG9mOI74XtAwi8aDasZ86uhyh_BwnY5XZ-4bhBwMogv8Wj5vuzdLfKs4mtotyaFwj1xwmzxbPdDSr9N5EIB0MDGFR9fyGC1wYiKaGBMO_EMdR1j0Eh5zLrKOZAXBy7qeImzyqYOH-Nji6pnHJ6g6P_gaCymry2GV4Jh7JX8vEOd7nA5fIQYmfWy8B-t_fF73Kxoh-lVHNe9T7OGQv94VGaVQkGXZD5r20IhWgVPNawiFj0oeppTmPev4Di_nsPwTpmggtGhTfGM0Ssle3QDw&src-supplier=Analog+Devices; ComponentLink2URL: https://datasheet.octopart.com:443/MAX30003CWV%2BT-Analog-Devices-datasheet-140085705.pdf?src-supplier=Ciiva; ComponentLink2Description: https://datasheet.octopart.com:443/MAX30003CWV%2BT-Analog-Devices-datasheet-140085705.pdf?src-supplier=Ciiva; ComponentLink3URL: https://datasheet.octopart.com:443/MAX30003CWV%2BT-Maxim-Integrated-datasheet-158444675.pdf?src-supplier=SHENGYU+ELECTRONICS; ComponentLink3Description: https://datasheet.octopart.com:443/MAX30003CWV%2BT-Maxim-Integrated-datasheet-158444675.pdf?src-supplier=SHENGYU+ELECTRONICS; ComponentLink4URL: https://sigma.octopart.com:443/140085703/technical_drawing/Maxim-Integrated-MAX30003CWV%2BT.pdf?src-supplier=ShanghaiCT; ComponentLink4Description: https://sigma.octopart.com:443/140085703/technical_drawing/Maxim-Integrated-MAX30003CWV%2BT.pdf?src-supplier=ShanghaiCT; ComponentLink5URL: http://sigma.octopart.com:80/conflict_mineral_statement/Analog-Devices-company-33.pdf?src-supplier=Compliance+Statements; ComponentLink5Description: http://sigma.octopart.com:80/conflict_mineral_statement/Analog-Devices-company-33.pdf?src-supplier=Compliance+Statements; ComponentLink6URL: http://sigma.octopart.com:80/reach_statement/Maxim-Integrated-company-67.pdf?src-supplier=Compliance+Statements; ComponentLink6Description: http://sigma.octopart.com:80/reach_statement/Maxim-Integrated-company-67.pdf?src-supplier=Compliance+Statements; ComponentLink7URL: http://sigma.octopart.com:80/rohs_statement/Maxim-Integrated-company-66.pdf?src-supplier=Compliance+Statements; ComponentLink7Description: http://sigma.octopart.com:80/rohs_statement/Maxim-Integrated-company-66.pdf?src-supplier=Compliance+Statements; ComponentLink8URL: http://sigma.octopart.com:80/conflict_mineral_statement/Maxim-Integrated-company-65.pdf?src-supplier=Compliance+Statements; ComponentLink8Description: http://sigma.octopart.com:80/conflict_mineral_statement/Maxim-Integrated-company-65.pdf?src-supplier=Compliance+Statements; ComponentLink9URL: https://octopart.com:443/opatz8j6/c1?t=C5wi6Ywbj3_StShqRmEWtauoEr1HB7boNf4BPGSOyBnMa1V30lLXOP9xtctvyU1GzhGPHxat6ZCK3lCB5VC22sMjd9-3UgJYCSG2FnCK-VgoDvVFsk-stHOSCrtO3IL1HCz63R-MsSVQ4yft_5U7hk4EaIveQx8BopmINwSYCmlhGUEAcMy1D7RmsFIwQK4rk0gIGHi9JhfV8APSS7F9EnRGmoZCghWB0pv4oahWZJnOagv8eQtApACRPRxlftwa0aGDo1hRywDzYQt_o20zZakOpl4i9nH329Zqce6X7b4mkZ7wojw-otbdnw&src-supplier=Compliance+Statements; ComponentLink9Description: https://octopart.com:443/opatz8j6/c1?t=C5wi6Ywbj3_StShqRmEWtauoEr1HB7boNf4BPGSOyBnMa1V30lLXOP9xtctvyU1GzhGPHxat6ZCK3lCB5VC22sMjd9-3UgJYCSG2FnCK-VgoDvVFsk-stHOSCrtO3IL1HCz63R-MsSVQ4yft_5U7hk4EaIveQx8BopmINwSYCmlhGUEAcMy1D7RmsFIwQK4rk0gIGHi9JhfV8APSS7F9EnRGmoZCghWB0pv4oahWZJnOagv8eQtApACRPRxlftwa0aGDo1hRywDzYQt_o20zZakOpl4i9nH329Zqce6X7b4mkZ7wojw-otbdnw&src-supplier=Compliance+Statements; Supplier 1: DigiKey; Supplier Part Number 1: 175-MAX30003CWV+TCT-ND
footprint BGA30C50P6X5_292X274X69 (BGA, 30-Leads, Body 2.93x2.74mmx0.69mm, Pitch 0.50mm)
pins: A1 IC, A2 IC, A3 IC, A4 IC, A5 ECGP (in), A6 ECGN (in), B1 VBG (out), B2 IC, B3 AGND (power), B4 AGND (power), B5 CAPN (in), B6 CAPP (in), C1 VCM (out), C2 IC, C3 AGND (power), C4 AGND (power), C5 DGND (power), C6 CPLL (in), D1 VREF (out), D2 INTB (out), D3 OVDD (power), D4 AGND (power), D5 FCLK, D6 DVDD (power), E1 AVDD (power), E2 INT2B (out), E3 SDO (out), E4 SDI (in), E5 SCLK (in), E6 CSB (in)

## MAX32664GTGB+
designator U?
Ultra-Low Power Biometric Sensor Hub 24-Pin TQFN Tray; Manufacturer: Maxim Integrated; Supplier 1: Avnet; Manufacturer Part Number: MAX32664GTGB+; Pricing 1: 200=2.49920, 400=2.46400, 600=2.39360, 1000=2.34080, 2000=2.25280 (USD); ComponentLink1URL: http://datasheet.octopart.com/MAX32664GTGB%2B-Maxim-Integrated-datasheet-140082400.pdf?src-supplier=Ciiva+Crawler; ComponentLink1Description: http://datasheet.octopart.com/MAX32664GTGB%2B-Maxim-Integrated-datasheet-140082400.pdf?src-supplier=Ciiva+Crawler; Supplier Part Number 1: MAX32664GTGB+
footprint QFN40P300X300X80_HS-25N (QFN, 32-Leads, Body 3.00x3.00mm, Pitch 0.40mm, Thermal Pad 1.70x1.70mm, IPC Medium Density)
pins: 1 MFIO (io), 2 ACCEL_CS (out), 3 NC, 4 DNC, 5 DNC, 6 ~{RST}N (in), 7 VSS (power), 8 32KOUT (out), 9 32KIN (in), 10 VSS (power), 11 VDD (power), 12 VCORE, 13 ACCEL_INT (in), 14 PPG_INT (in), 15 NC, 16 DNC, 17 DNC, 18 PPG_CS (out), 19 SENSOR_SCK (out), 20 SENSOR_MOSI (out), 21 SENSOR_MISO (in), 22 VDD (power), 23 SLAVE_SDA (io), 24 SLAVE_SCL (in), 25 EP

## MAX32664GWEB+T
designator *
Manufacturer: Maxim; Manufacturer Part Number: MAX32664GWEB+T; Supplier 1: Mouser; Supplier Part Number 1: 700-MAX32664GWEB+T; RoHS: No; Stock 1: 2404; Pricing 1: 1=4.33000, 10=4.08000, 25=3.26000, 50=3.10000, 100=2.86000, 250=2.72000, 500=2.23000, 1000=2.03000 (USD)
footprint BGA16C35P4X4_158X156X69 (BGA, 16-Leads, Body 1.58x1.56mmx0.69mm, Pitch 0.35mm)
pins: A1 32KOUT (out), A2 32KIN (in), A3 VDD (power), A4 VCORE, B1 ~{RST}N (in), B2 VSS (power), B3 ACCEL_INT (in), B4 PPG_INT (in), C1 ACCEL_CS (out), C2 MFIO (io), C3 SENSOR_SCK (out), C4 PPG_CS (out), D1 SLAVE_SCL (in), D2 SLAVE_SDA (io), D3 SENSOR_MISO (in), D4 SENSOR_MOSI (out)

## MAX86141ENP+
designator U?
Optical Afe Optimized For Hr on Wrist Applications; Manufacturer: Maxim; Supplier 1: Newark; Manufacturer Part Number: MAX86141ENP+; RoHS: No; Category: Sensors; Pricing 1: 1=6.53000, 10=6.32000, 25=6.11000, 50=5.90000, 100=5.69000, 250=5.67000, 500=4.93000 (USD); ComponentLink1URL: https://datasheets.maximintegrated.com/en/ds/MAX86140.pdf?src-supplier=Digi-Key; ComponentLink1Description: https://datasheets.maximintegrated.com/en/ds/MAX86140.pdf?src-supplier=Digi-Key; Supplier Part Number 1: 44AC5574
footprint BGA20C40P5X4_205X185X50 (BGA, 20-Leads, Body 2.05x1.85mmx0.50mm, Pitch 0.40mm)
pins: A1 VLED (power), A2 SCLK (in), A3 SDO (out), A4 SDI (in), A5 CSB (in), B1 LED3_DRV (io), B2 ~{INT} (out), B3 GPIO1 (io), B4 GPIO2 (io), B5 VREF (power), C1 LED2_DRV (io), C2 VDD_DIG (power), C3 GND_DIG (power), C4 GND_ANA (power), C5 PD_GND, D1 LED1_DRV (io), D2 VDD_ANA (power), D3 PGND (power), D4 PD2_IN (io), D5 PD1_IN (io)

## MB85RC256VPNF-G-JNERE1
designator U?, comment MB85RC256VPNF
IC FRAM 256KBIT 1MHZ 8SOP; Manufacturer: Fujitsu Electronics America, Inc.; Manufacturer Part Number: MB85RC256VPNF-G-JNERE1; Format - Memory: RAM; Memory Type: FRAM (Ferroelectric RAM); Memory Size: 256K (32K x 8); Speed: 100kHz, 400kHz, 1MHz; Interface: I²C, 2-Wire Serial; Voltage - Supply: 2.7 V ~ 5.5 V; Supplier 1: Digi-Key; Supplier Part Number 1: 865-1261-6-ND; RoHS: RoHS Compliant; Category: Integrated Circuits (ICs); Stock 1: 2568; Pricing 1: 1=3.22, 10=2.919, 25=2.8552, 50=2.8394, 100=2.5465, 250=2.53704, 500=2.44362 (EUR); Packaging: Digi-Reel®; Part Status: Active; Operating Temperature: -40°C ~ 85°C (TA); Package / Case: 8-SOIC (0.154", 3.90mm Width); Supplier Device Package: 8-SOP; ComponentLink1URL: http://www.fujitsu.com/us/Images/MB85RC256V-DS501-00017-3v0-E.pdf; ComponentLink1Description: http://www.fujitsu.com/us/Images/MB85RC256V-DS501-00017-3v0-E.pdf
footprint TSOP127P600X155-8N (TSOP, 8-Leads, Body 5,05x3,90mm, Pitch 1,27mm, IPC Medium Density)
pins: 1 A0, 2 A1, 3 A2, 4 VSS, 5 SDA, 6 SCL, 7 WP, 8 VDD

## MC74AC240DWG
designator U?
ON Semiconductor MC74AC240DWG Octal D Type Flip Flop IC, 3-State, 2  6 V, 20-Pin SOIC; Number of Bits: 8; Logic Function: Inverter,Buffer,D-Type; Number of Inputs: 4; Operating Supply Voltage: 5V; Propagation Delay: 6.5ns; Max Supply Voltage: 6V; Min Supply Voltage: 2V; Number of Circuits: 2; High Level Output Current: -24mA; Low Level Output Current: 24mA; Quiescent Current: 8uA; Number of Output Lines: 3; Polarity: Inverting; Supplier 1: Digi-Key; Supplier Part Number 1: MC74AC240DWGOS-ND; Manufacturer: ON Semiconductor; Manufacturer Part Number: MC74AC240DWG; RoHS: Yes; Category: Amplifiers - Op Amps, Buffer, Instrumentation; Stock 1: 69; Pricing 1: 1=0.66000, 10=0.58100, 25=0.54560, 100=0.44530, 250=0.41360, 500=0.35200, 1000=0.28160, 2500=0.25520, 5000=0.23760 (USD); Mount: Surface Mount; Case/Package: SOIC; Number of Pins: 20; Min Operating Temperature: -40°C; Max Operating Temperature: 85°C; Packaging: Rail/Tube; Number of Channels: 8; Number of Outputs: 8; Package Quantity: 38; Number of Input Lines: 8; Turn-On Delay Time: 6.5ns; Number of Elements: 2; Length: 12.95mm; Width: 7.6mm; Height: 2.4mm; Radiation Hardening: No; Lead Free: Lead Free; Halogen Free: Halogen Free; ComponentLink1URL: https://datasheet.ciiva.com/8305/mc74ac240-d-8305474.pdf?src-supplier=Avnet; ComponentLink1Description: https://datasheet.ciiva.com/8305/mc74ac240-d-8305474.pdf?src-supplier=Avnet; ComponentLink2URL: https://datasheet.ciiva.com/26093/mc74ac240-d-26093893.pdf?src-supplier=Avnet+Europe; ComponentLink2Description: https://datasheet.ciiva.com/26093/mc74ac240-d-26093893.pdf?src-supplier=Avnet+Europe; ComponentLink3URL: https://datasheet.ciiva.com/16379/mc74ac240-d-16379032.pdf?src-supplier=Future+Electronics; ComponentLink3Description: https://datasheet.ciiva.com/16379/mc74ac240-d-16379032.pdf?src-supplier=Future+Electronics; ComponentLink4URL: https://datasheet.ciiva.com/6619/mc74ac240-d-6619785.pdf?src-supplier=Digi-Key; ComponentLink4Description: https://datasheet.ciiva.com/6619/mc74ac240-d-6619785.pdf?src-supplier=Digi-Key; ComponentLink5URL: https://datasheet.ciiva.com/48994/70547235-48994714.pdf?src-supplier=Allied+Electronics; ComponentLink5Description: https://datasheet.ciiva.com/48994/70547235-48994714.pdf?src-supplier=Allied+Electronics
footprint SOIC127P1030X265-20N (SOIC, 20-Leads, Body 12.80x7.50mm, Pitch 1.27mm, IPC Medium Density)
part A pins: 10 GND (power), 20 VCC (power)
part B pins: 1 ~{OE1}, 2, 4, 6, 8, 12, 14, 16, 18
part C pins: 3, 5, 7, 9, 11, 13, 15, 17, 19 ~{OE2}

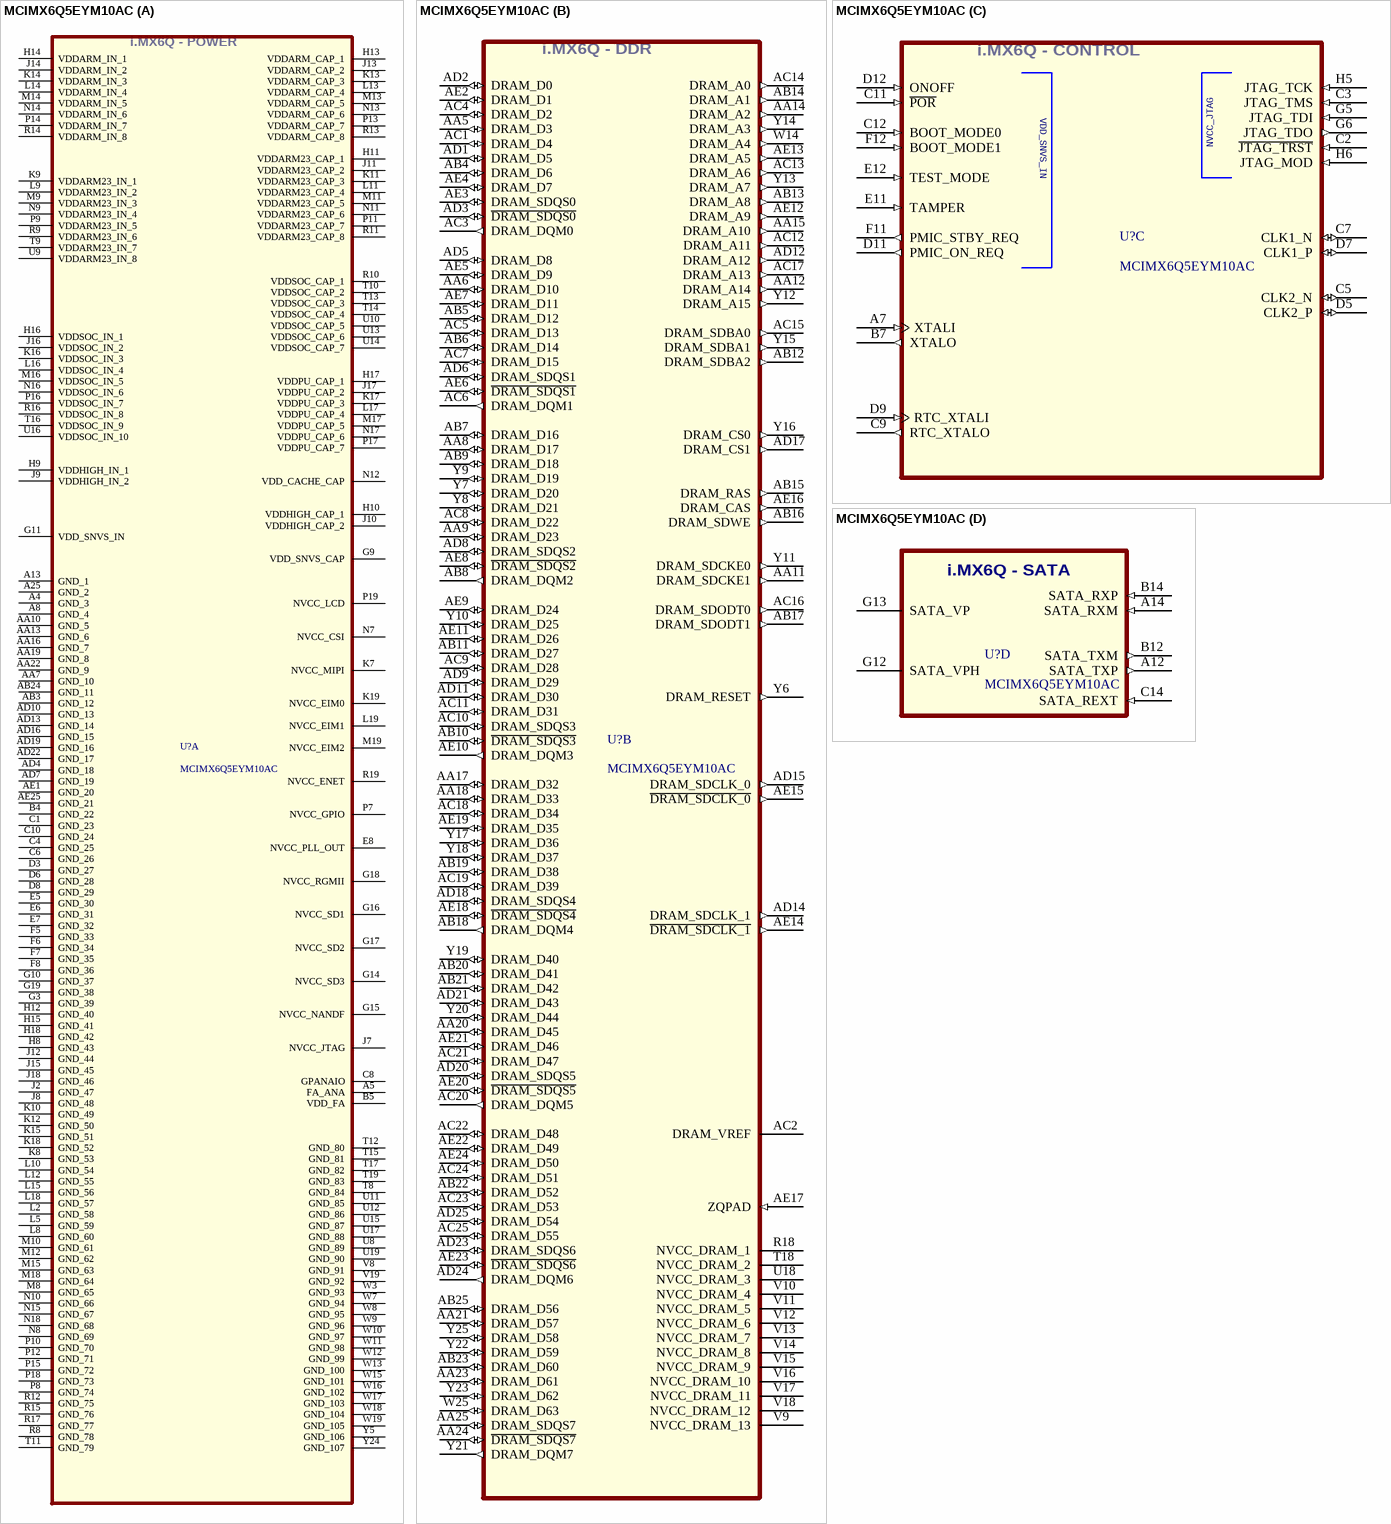
[diagram p4: symbol MCIMX6Q5EYM10AC]

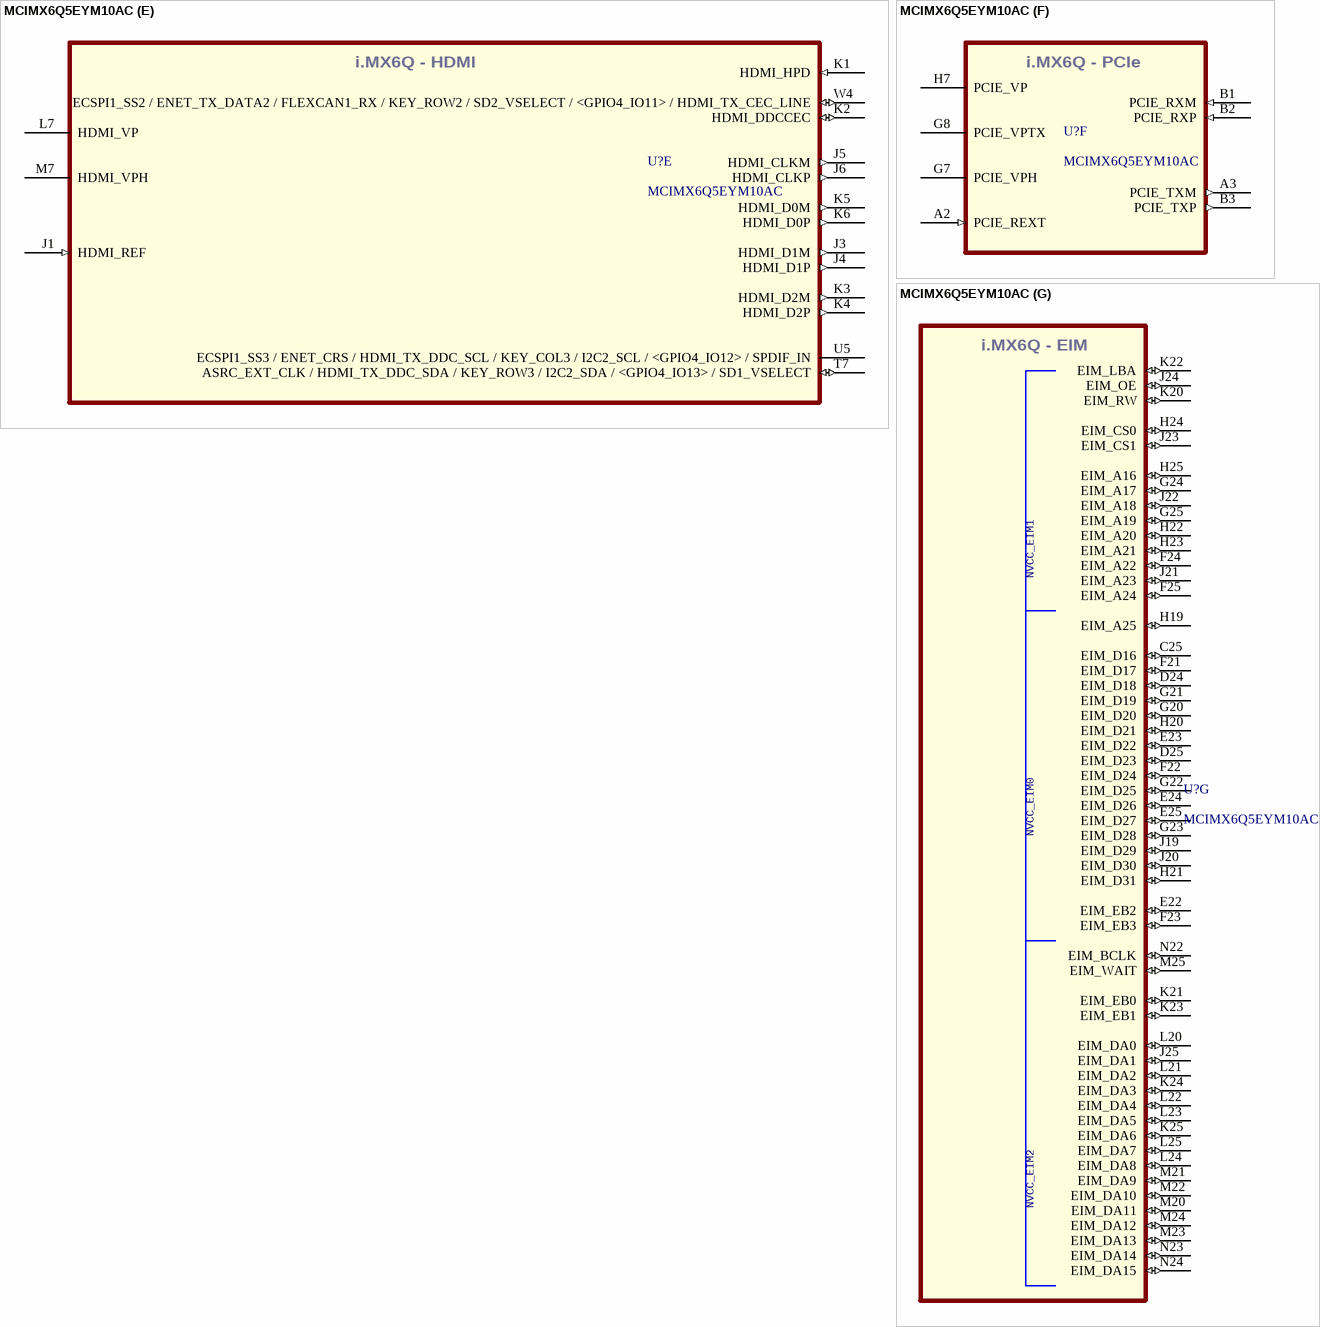
[diagram p5: symbol MCIMX6Q5EYM10AC]

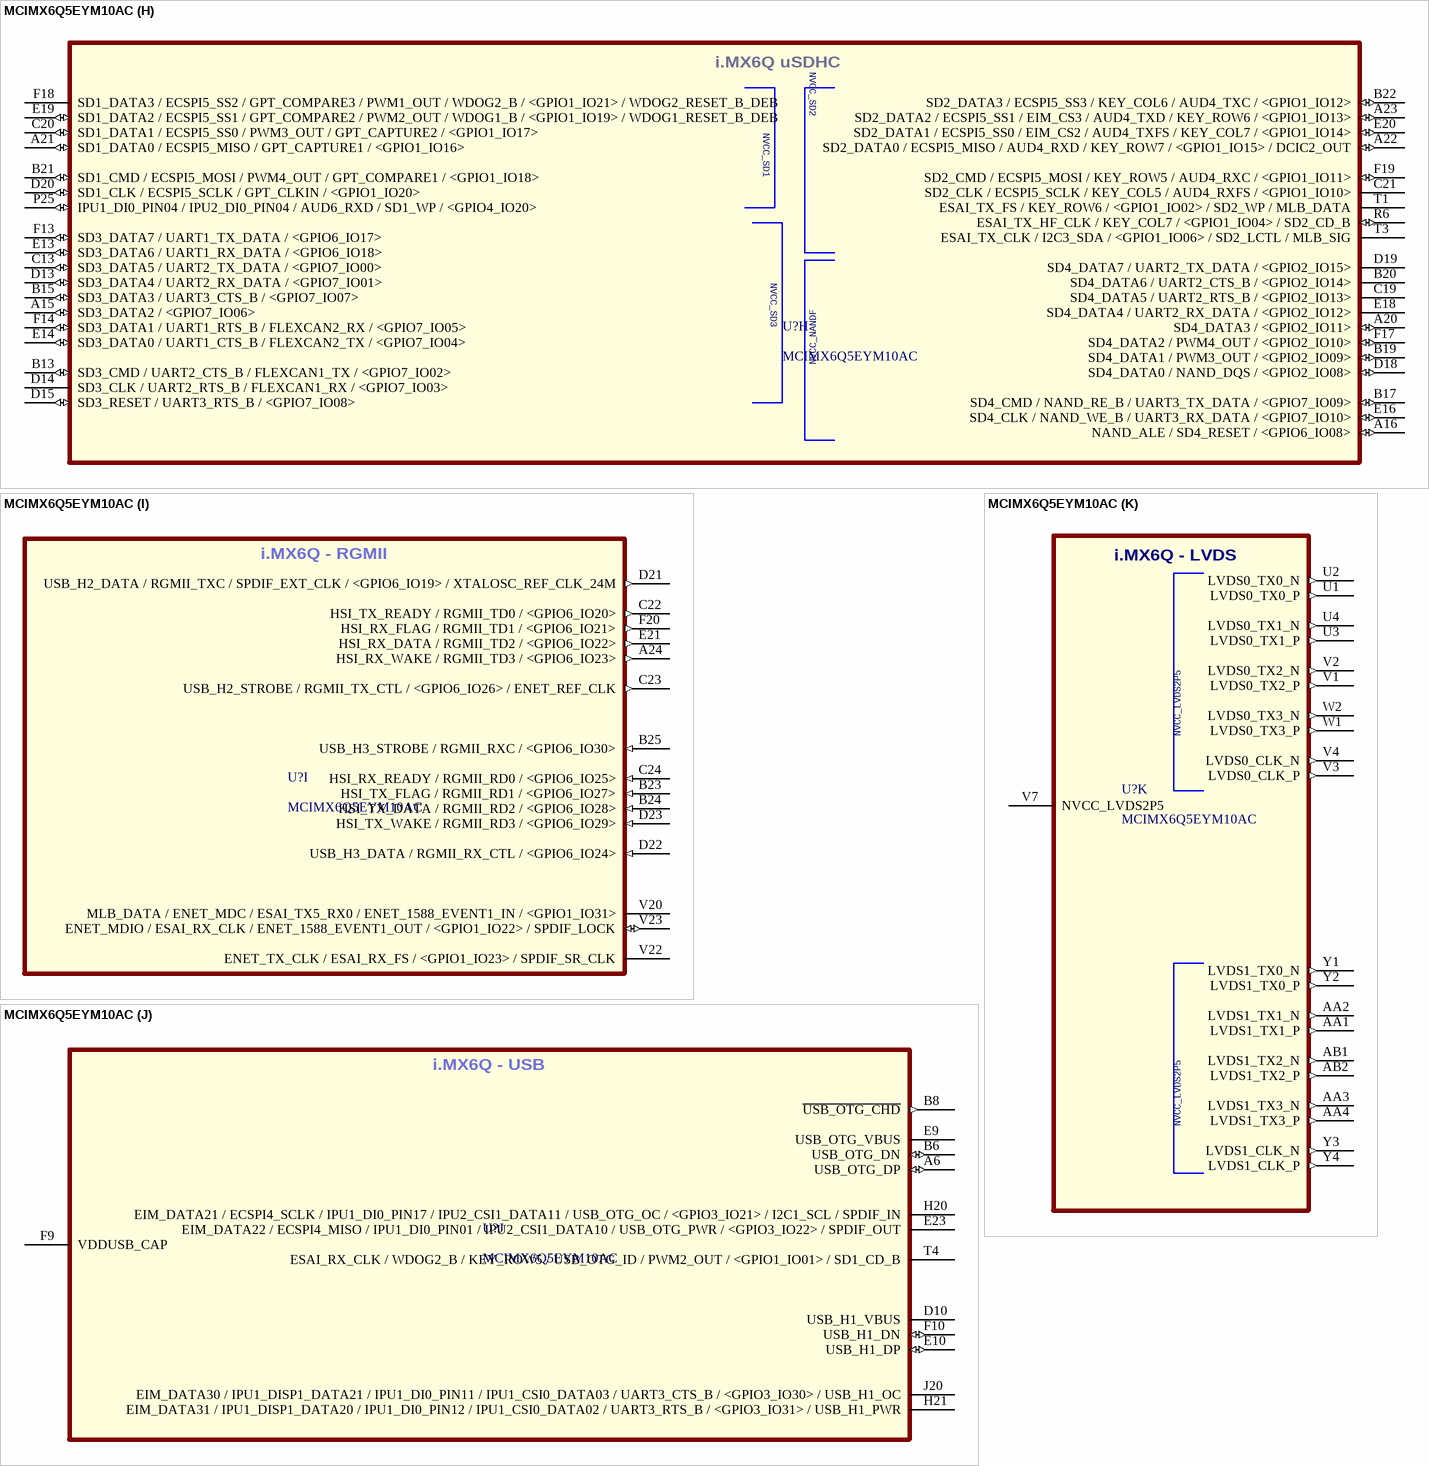
[diagram p6: symbol MCIMX6Q5EYM10AC]

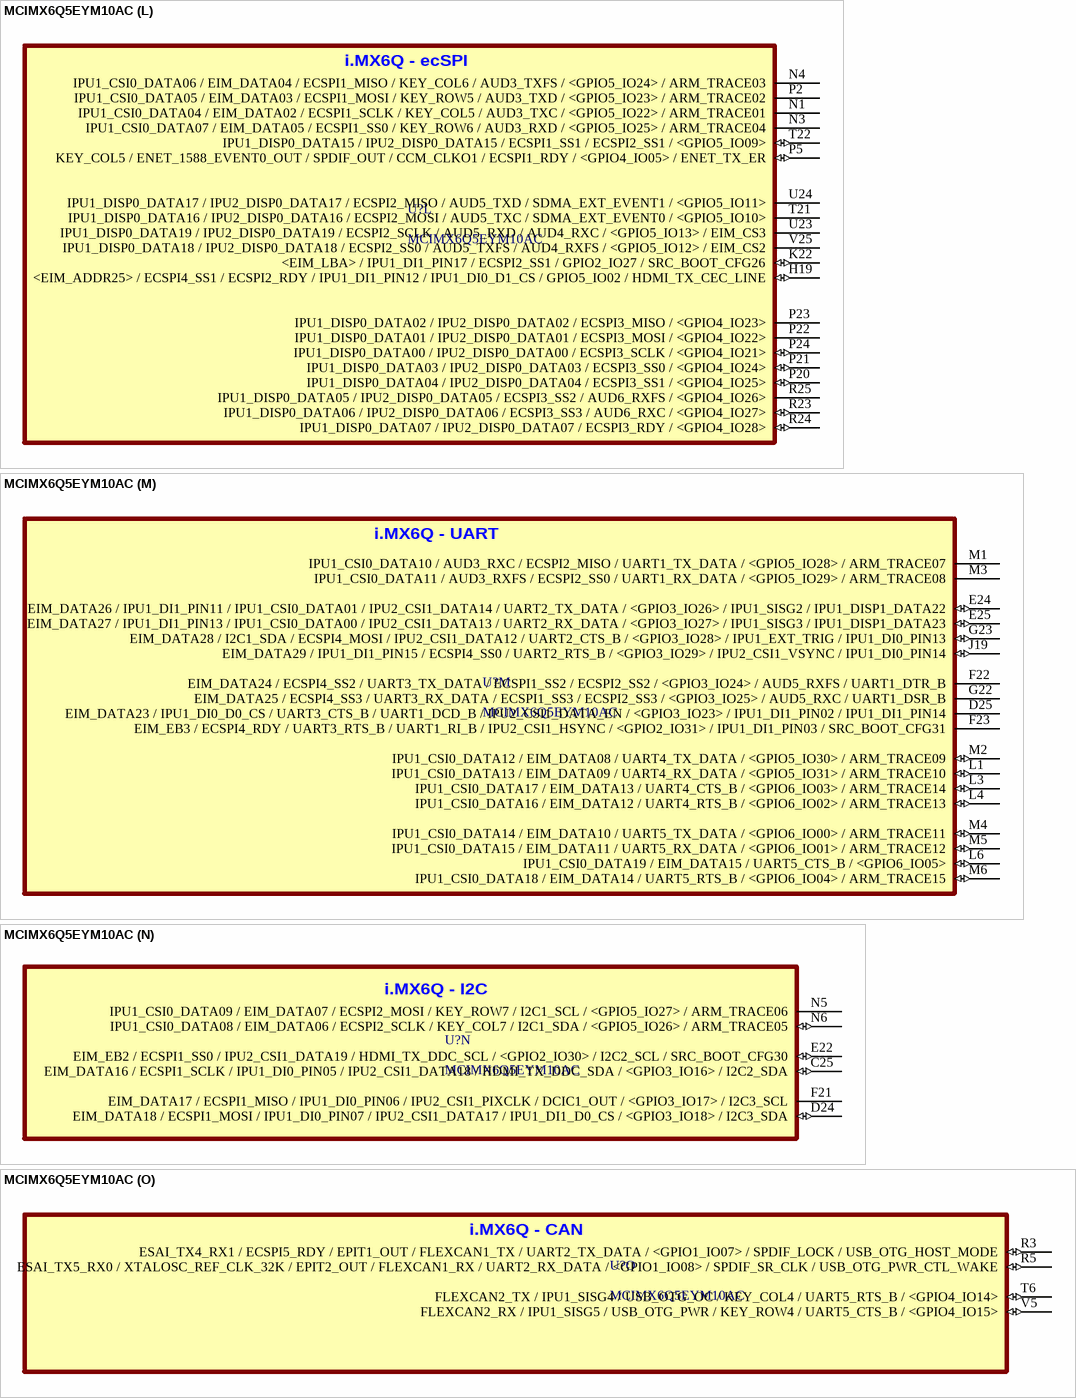
[diagram p7: symbol MCIMX6Q5EYM10AC]

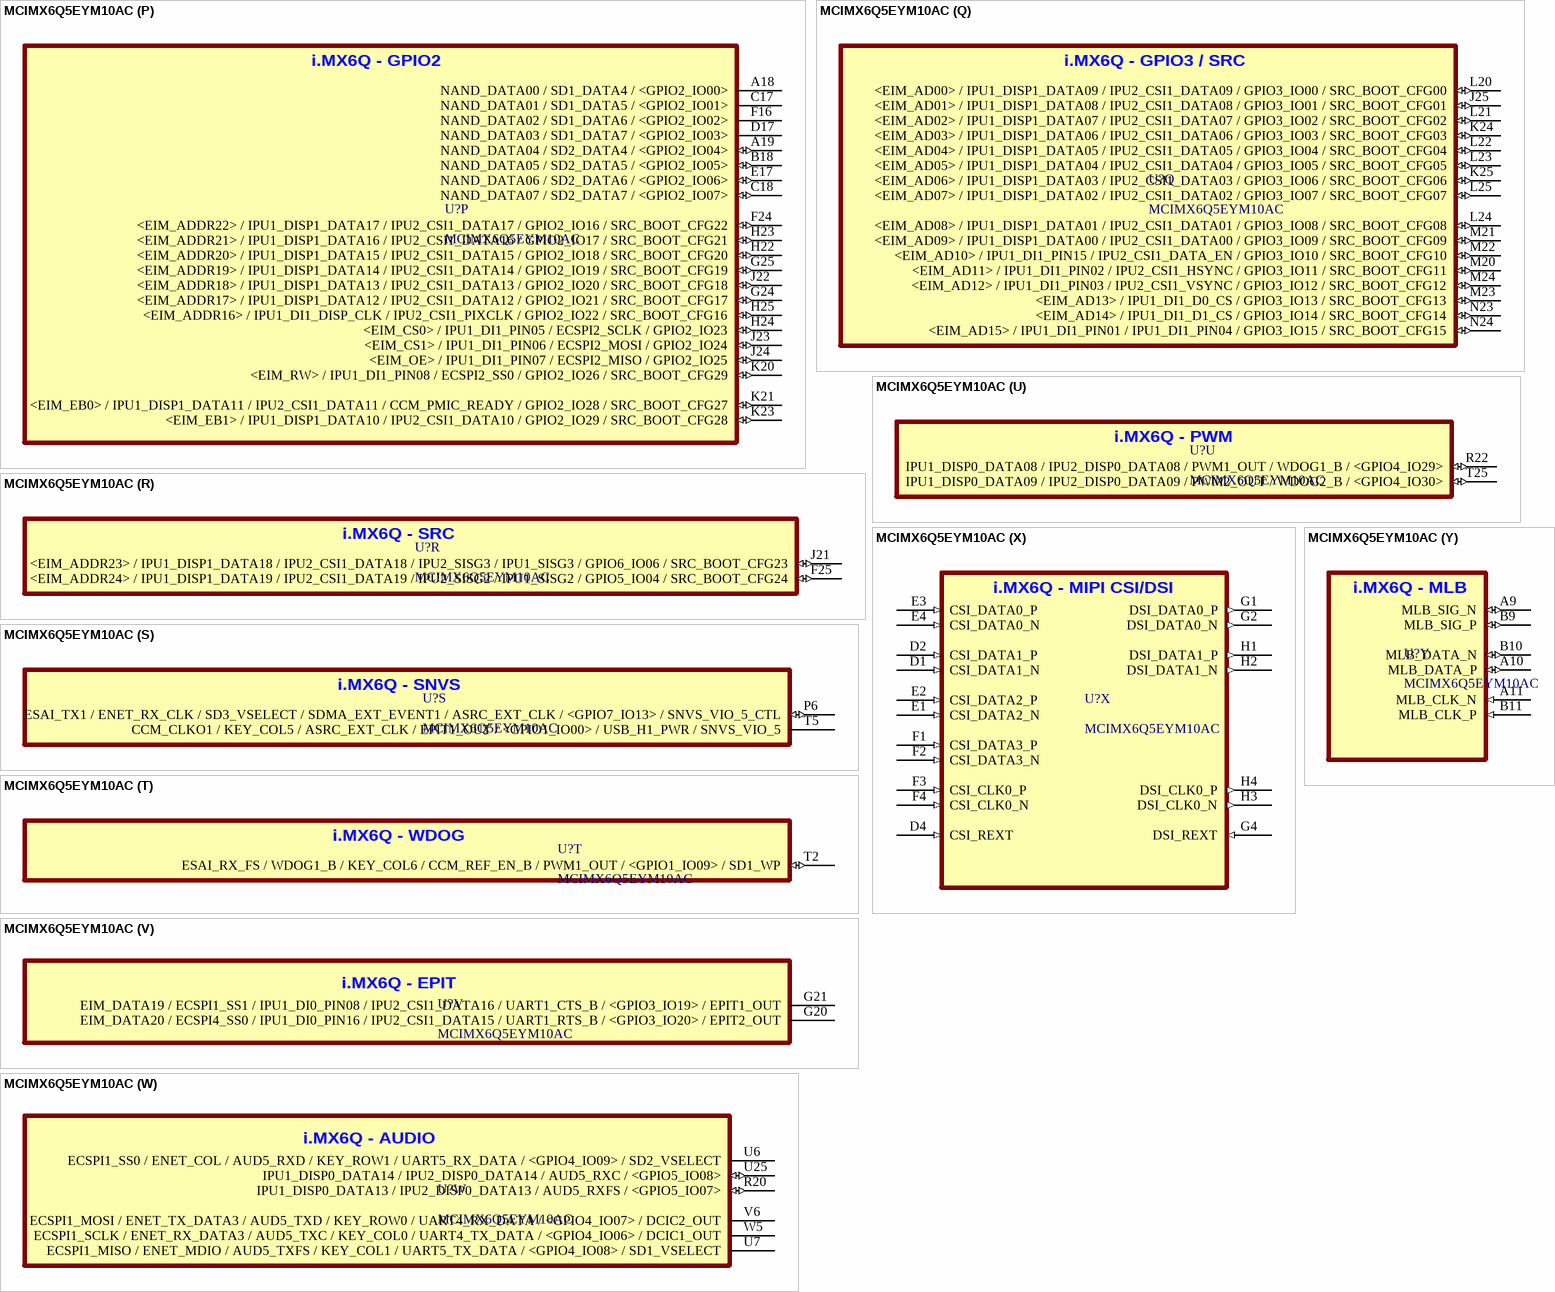
[diagram p8: symbol MCIMX6Q5EYM10AC]

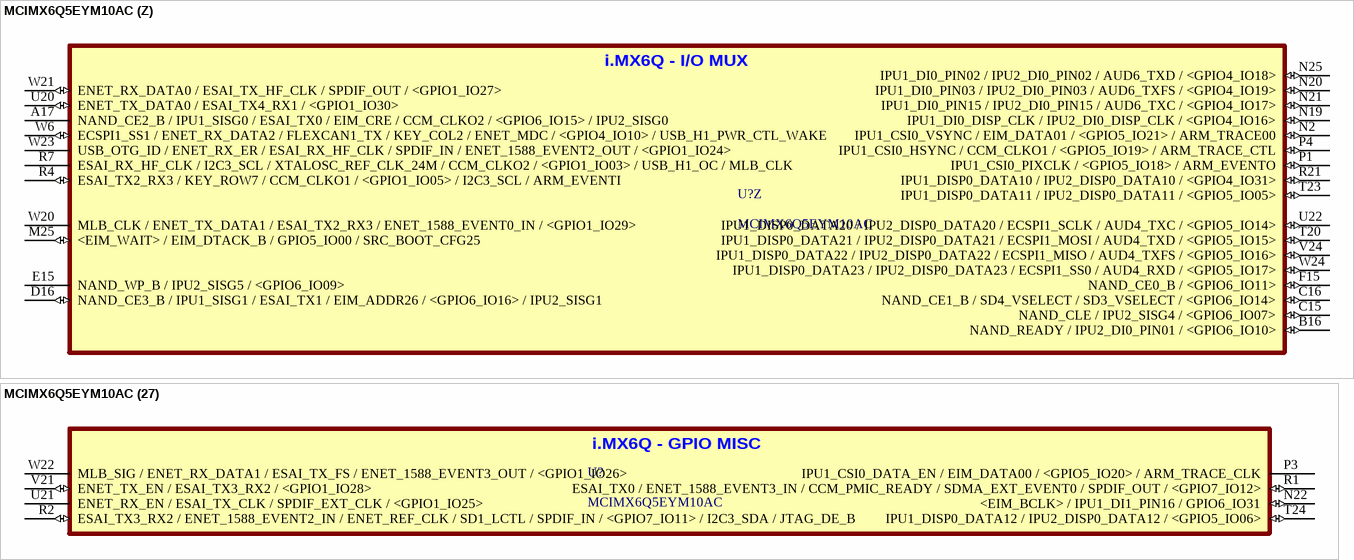
[diagram p9: symbol MCIMX6Q5EYM10AC]